# Altium schematic symbol library SnapEDAsch.SchLib: 1 symbol
Pins are listed as number, name and electrical type; pins without a type are passive.

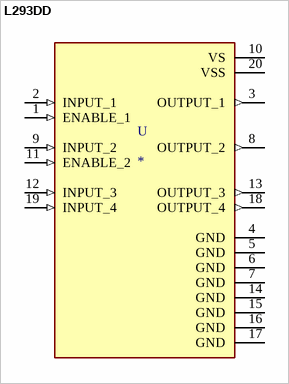
[diagram p0: symbol L293DD]

## L293DD
designator U
Bipolar Motor Driver Parallel 20-SOIC; MP: L293DD; MF: STMicroelectronics; Package: SOIC-20 STMicroelectronics; SnapEDA_Link: https://www.snapeda.com/parts/L293DD/STMicroelectronics/view-part/585585/?ref=snap; Value: *; Availability: Unavailable; Price: None
footprint SOIC127P1032X265-20N
pins: 1 ENABLE_1 (in), 2 INPUT_1 (in), 3 OUTPUT_1 (out), 4 GND (power), 5 GND (power), 6 GND (power), 7 GND (power), 8 OUTPUT_2 (out), 9 INPUT_2 (in), 10 VS (power), 11 ENABLE_2 (in), 12 INPUT_3 (in), 13 OUTPUT_3 (out), 14 GND (power), 15 GND (power), 16 GND (power), 17 GND (power), 18 OUTPUT_4 (out), 19 INPUT_4 (in), 20 VSS (power)